# Altium footprint library GPS01-TD.pcblib: 1 footprints
Each footprint in its own frame and in the unit in brackets; x right, y up, seen from the top. Pads: shape width x height; smd on the part's side, far side on the other; paste and mask are expansions set on the pad; w line width, h text height; cw(c..) or ccw(c..) is an arc to the next point about the centre after c.
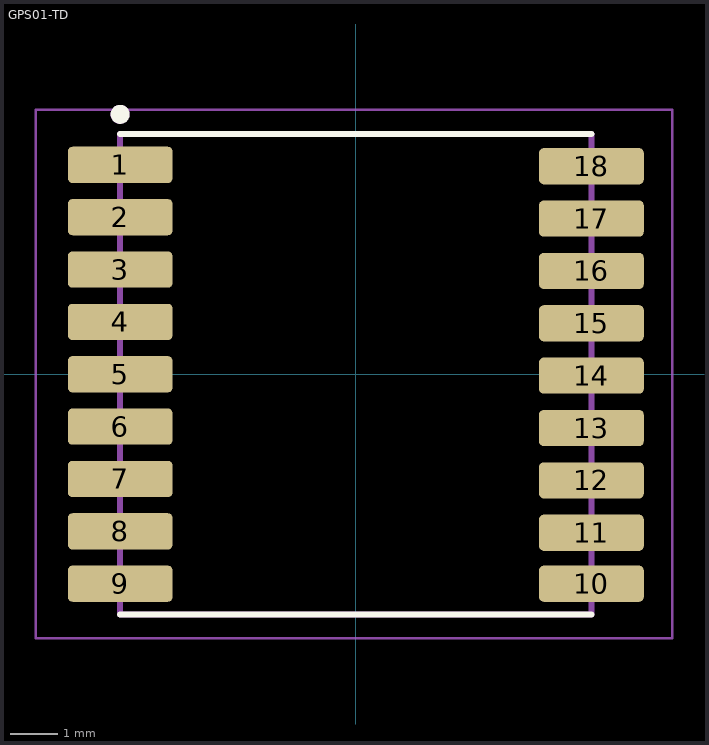
[diagram p0: the footprint, top view; thin cyan lines are the x and y axes]

## GPS01-TD [mm]
height 2
pads (18):
  rrect25% 2.2x0.76 smd: 1(-4.95,4.4) 2(-4.95,3.3) 3(-4.95,2.2) 4(-4.95,1.1) 5(-4.95,0) 6(-4.95,-1.1) 7(-4.95,-2.2) 8(-4.95,-3.3) 9(-4.95,-4.4) 10(4.95,-4.4) 11(4.95,-3.329) 12(4.95,-2.229) 13(4.95,-1.129) 14(4.95,-0.029) 15(4.95,1.071) 16(4.95,2.171) 17(4.95,3.271) 18(4.95,4.371)
Top Overlay:
  circle w0.2: c-4.95,5.461 r0.1
  lines w0.127: -4.953,-5.047 4.946,-5.047 ; -4.952,5.049 4.95,5.049
Mechanical 13:
  circle w0.2: c-4.953,5.461 r0.1
  lines w0.127: -4.95,-5.05 -4.95,5.05 4.95,5.05 4.95,-5.05 -4.95,-5.05
Mechanical 15:
  lines w0.05: -6.723,-5.55 -6.723,5.555 6.647,5.555 6.647,-5.55 -6.723,-5.55
3D body: height 2, standoff 0, extent -4.95,-5.05 4.95,5.05